# Altium integrated library TI_Logic_Flip-Flop,Latch,Register.IntLib: 2598 symbols (part 2 of 122)
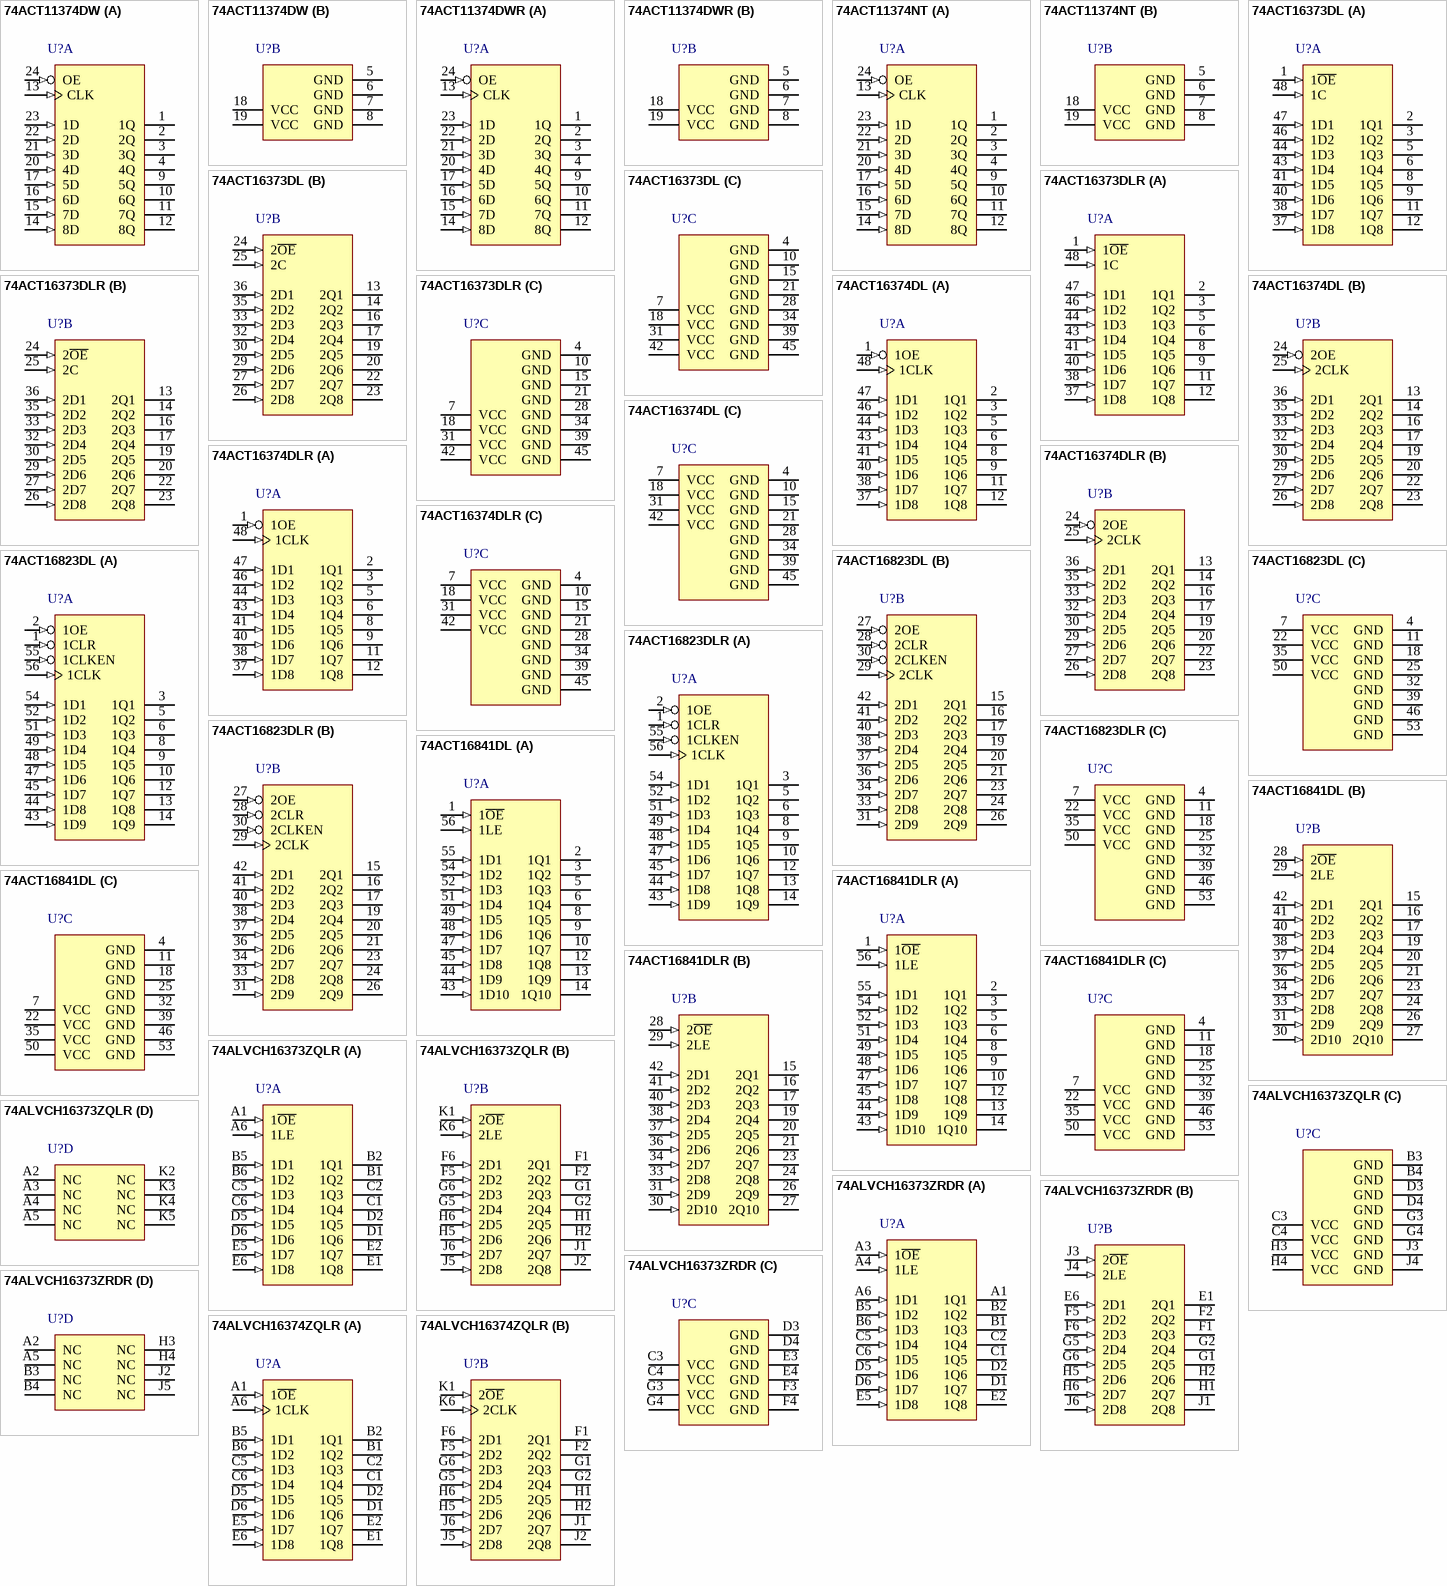
[diagram p140: symbols 74ACT11374DW to 74ALVCH16374ZQLR]

## 74ACT16823DLR
designator U?
18-Bit Bus-Interface Flip-Flops with 3-State Outputs, DL0056A, LARGE T&R; Generic Part Number: 74ACT16823; Manufacturer: Texas Instruments; PartNumber: 74ACT16823DLR; VCC(Min)(V): 4.5; VCC(Max)(V): 5.5; Output Type: CMOS; ICC @ Nom Voltage(Max)(mA): 0.08; Input Type: TTL; Bits(#): 18; F @ Nom Voltage(Max)(Mhz): 90; Rating: Catalog; Technology Family: ACT; Voltage(Nom)(V): 5; Schmitt Trigger: No; Output Drive (IOL/IOH)(Max)(mA): 24/-24; Output Logic: Non-inverted; 3-State Output: Yes; tpd @ Nom Voltage(Max)(ns): 12.9; DatasheetVersion: SCAS160A; PackageReference: DL0056A; Supplier 1: Digi-Key; Supplier Part Number 1: 296-14457-2-ND; Supplier 2: Digi-Key; Supplier Part Number 2: 296-14457-1-ND; Supplier 3: Digi-Key; Supplier Part Number 3: 296-14457-6-ND; Supplier 4: Mouser; Supplier Part Number 4: 595-74ACT16823DLR; Operating Temperature Range(C): -40 to 85; Code_JEDEC: MO-118; ComponentLink1Description: Manufacturer URL; ComponentLink1URL: http://www.ti.com/; ComponentLink2Description: Datasheet; ComponentLink2URL: http://www.ti.com/lit/ds/symlink/74act16823.pdf; ComponentLink3Description: Package Specification; ComponentLink3URL: http://www.ti.com/lit/ml/mpds491/mpds491.pdf
footprint DL0056A_N (SOP, 56-Leads, Body 7.6x18.5mm, Pitch 0.635mm, IPC Medium Density)
footprint DL0056A_M (SOP, 56-Leads, Body 7.6x18.5mm, Pitch 0.635mm, IPC Low Density)
footprint DL0056A_L (SOP, 56-Leads, Body 7.6x18.5mm, Pitch 0.635mm, IPC High Density)
part A pins: 1 1CLR (in) "Asynchronous Clear Inputs (Active LOW)", 2 1OE (in) "Output Enable Inputs (Active LOW)", 3 1Q1 (hiz) "Three-State Outputs", 5 1Q2 (hiz) "Three-State Outputs", 6 1Q3 (hiz) "Three-State Outputs", 8 1Q4 (hiz) "Three-State Outputs", 9 1Q5 (hiz) "Three-State Outputs", 10 1Q6 (hiz) "Three-State Outputs", 12 1Q7 (hiz) "Three-State Outputs", 13 1Q8 (hiz) "Three-State Outputs", 14 1Q9 (hiz) "Three-State Outputs", 43 1D9 (in) "Data Inputs", 44 1D8 (in) "Data Inputs", 45 1D7 (in) "Data Inputs", 47 1D6 (in) "Data Inputs", 48 1D5 (in) "Data Inputs", 49 1D4 (in) "Data Inputs", 51 1D3 (in) "Data Inputs", 52 1D2 (in) "Data Inputs", 54 1D1 (in) "Data Inputs", 55 1CLKEN (in) "Clock Enable Inputs (Active LOW)", 56 1CLK (in) "Clock Inputs"
part B pins: 15 2Q1 (hiz) "Three-State Outputs", 16 2Q2 (hiz) "Three-State Outputs", 17 2Q3 (hiz) "Three-State Outputs", 19 2Q4 (hiz) "Three-State Outputs", 20 2Q5 (hiz) "Three-State Outputs", 21 2Q6 (hiz) "Three-State Outputs", 23 2Q7 (hiz) "Three-State Outputs", 24 2Q8 (hiz) "Three-State Outputs", 26 2Q9 (hiz) "Three-State Outputs", 27 2OE (in) "Output Enable Inputs (Active LOW)", 28 2CLR (in) "Asynchronous Clear Inputs (Active LOW)", 29 2CLK (in) "Clock Inputs", 30 2CLKEN (in) "Clock Enable Inputs (Active LOW)", 31 2D9 (in) "Data Inputs", 33 2D8 (in) "Data Inputs", 34 2D7 (in) "Data Inputs", 36 2D6 (in) "Data Inputs", 37 2D5 (in) "Data Inputs", 38 2D4 (in) "Data Inputs", 40 2D3 (in) "Data Inputs", 41 2D2 (in) "Data Inputs", 42 2D1 (in) "Data Inputs"
part C pins: 4 GND (power), 7 VCC (power), 11 GND (power), 18 GND (power), 22 VCC (power), 25 GND (power), 32 GND (power), 35 VCC (power), 39 GND (power), 46 GND (power), 50 VCC (power), 53 GND (power)

## 74ACT16841DL
designator U?
20-Bit Bus-Interface D-Type Latches With 3-State Outputs, DL0056A, TUBE; Generic Part Number: 74ACT16841; Manufacturer: Texas Instruments; PartNumber: 74ACT16841DL; VCC(Min)(V): 4.5; VCC(Max)(V): 5.5; Output Type: CMOS; Logic: True; Static Current: 0.08; Input Type: TTL; Bits(#): 20; F @ Nom Voltage(Max)(Mhz): 90; Rating: Catalog; Technology Family: ACT; Voltage(Nom)(V): 5; Schmitt Trigger: No; Output Drive (IOL/IOH)(Max)(mA): 24/-24; Output Logic: Non-inverted; 3-State Output: Yes; tpd @ Nom Voltage(Max)(ns): 12.2; DatasheetVersion: SCAS174A; PackageReference: DL0056A; Supplier 1: Digi-Key; Supplier Part Number 1: 296-4210-5-ND; Supplier 2: Mouser; Supplier Part Number 2: 595-74ACT16841DL; ICC @ Nom Voltage(Max)(mA): 0.08; Operating Temperature Range(C): -40 to 85; Code_JEDEC: MO-118; ComponentLink1Description: Manufacturer URL; ComponentLink1URL: http://www.ti.com/; ComponentLink2Description: Datasheet; ComponentLink2URL: http://www.ti.com/lit/ds/symlink/74act16841.pdf; ComponentLink3Description: Package Specification; ComponentLink3URL: http://www.ti.com/lit/ml/mpds491/mpds491.pdf
footprint DL0056A_N (SOP, 56-Leads, Body 7.6x18.5mm, Pitch 0.635mm, IPC Medium Density)
footprint DL0056A_M (SOP, 56-Leads, Body 7.6x18.5mm, Pitch 0.635mm, IPC Low Density)
footprint DL0056A_L (SOP, 56-Leads, Body 7.6x18.5mm, Pitch 0.635mm, IPC High Density)
part A pins: 1 1~{OE} (in) "Output Enable Input (Active LOW)", 2 1Q1 (hiz) "Three-State Outputs", 3 1Q2 (hiz) "Three-State Outputs", 5 1Q3 (hiz) "Three-State Outputs", 6 1Q4 (hiz) "Three-State Outputs", 8 1Q5 (hiz) "Three-State Outputs", 9 1Q6 (hiz) "Three-State Outputs", 10 1Q7 (hiz) "Three-State Outputs", 12 1Q8 (hiz) "Three-State Outputs", 13 1Q9 (hiz) "Three-State Outputs", 14 1Q10 (hiz) "Three-State Outputs", 43 1D10 (in) "Data Inputs", 44 1D9 (in) "Data Inputs", 45 1D8 (in) "Data Inputs", 47 1D7 (in) "Data Inputs", 48 1D6 (in) "Data Inputs", 49 1D5 (in) "Data Inputs", 51 1D4 (in) "Data Inputs", 52 1D3 (in) "Data Inputs", 54 1D2 (in) "Data Inputs", 55 1D1 (in) "Data Inputs", 56 1LE (in) "Latch Enable Input (Active HIGH)"
part B pins: 15 2Q1 (hiz) "Three-State Outputs", 16 2Q2 (hiz) "Three-State Outputs", 17 2Q3 (hiz) "Three-State Outputs", 19 2Q4 (hiz) "Three-State Outputs", 20 2Q5 (hiz) "Three-State Outputs", 21 2Q6 (hiz) "Three-State Outputs", 23 2Q7 (hiz) "Three-State Outputs", 24 2Q8 (hiz) "Three-State Outputs", 26 2Q9 (hiz) "Three-State Outputs", 27 2Q10 (hiz) "Three-State Outputs", 28 2~{OE} (in) "Output Enable Input (Active LOW)", 29 2LE (in) "Latch Enable Input (Active HIGH)", 30 2D10 (in) "Data Inputs", 31 2D9 (in) "Data Inputs", 33 2D8 (in) "Data Inputs", 34 2D7 (in) "Data Inputs", 36 2D6 (in) "Data Inputs", 37 2D5 (in) "Data Inputs", 38 2D4 (in) "Data Inputs", 40 2D3 (in) "Data Inputs", 41 2D2 (in) "Data Inputs", 42 2D1 (in) "Data Inputs"
part C pins: 4 GND (power), 7 VCC (power), 11 GND (power), 18 GND (power), 22 VCC (power), 25 GND (power), 32 GND (power), 35 VCC (power), 39 GND (power), 46 GND (power), 50 VCC (power), 53 GND (power)

## 74ACT16841DLR
designator U?
20-Bit Bus-Interface D-Type Latches With 3-State Outputs, DL0056A, LARGE T&R; Generic Part Number: 74ACT16841; Manufacturer: Texas Instruments; PartNumber: 74ACT16841DLR; VCC(Min)(V): 4.5; VCC(Max)(V): 5.5; Output Type: CMOS; Logic: True; Static Current: 0.08; Input Type: TTL; Bits(#): 20; F @ Nom Voltage(Max)(Mhz): 90; Rating: Catalog; Technology Family: ACT; Voltage(Nom)(V): 5; Schmitt Trigger: No; Output Drive (IOL/IOH)(Max)(mA): 24/-24; Output Logic: Non-inverted; 3-State Output: Yes; tpd @ Nom Voltage(Max)(ns): 12.2; DatasheetVersion: SCAS174A; PackageReference: DL0056A; Supplier 1: Digi-Key; Supplier Part Number 1: 74ACT16841DLR-ND; Supplier 2: Mouser; Supplier Part Number 2: 595-74ACT16841DLR; ICC @ Nom Voltage(Max)(mA): 0.08; Operating Temperature Range(C): -40 to 85; Code_JEDEC: MO-118; ComponentLink1Description: Manufacturer URL; ComponentLink1URL: http://www.ti.com/; ComponentLink2Description: Datasheet; ComponentLink2URL: http://www.ti.com/lit/ds/symlink/74act16841.pdf; ComponentLink3Description: Package Specification; ComponentLink3URL: http://www.ti.com/lit/ml/mpds491/mpds491.pdf
footprint DL0056A_N (SOP, 56-Leads, Body 7.6x18.5mm, Pitch 0.635mm, IPC Medium Density)
footprint DL0056A_M (SOP, 56-Leads, Body 7.6x18.5mm, Pitch 0.635mm, IPC Low Density)
footprint DL0056A_L (SOP, 56-Leads, Body 7.6x18.5mm, Pitch 0.635mm, IPC High Density)
part A pins: 1 1~{OE} (in) "Output Enable Input (Active LOW)", 2 1Q1 (hiz) "Three-State Outputs", 3 1Q2 (hiz) "Three-State Outputs", 5 1Q3 (hiz) "Three-State Outputs", 6 1Q4 (hiz) "Three-State Outputs", 8 1Q5 (hiz) "Three-State Outputs", 9 1Q6 (hiz) "Three-State Outputs", 10 1Q7 (hiz) "Three-State Outputs", 12 1Q8 (hiz) "Three-State Outputs", 13 1Q9 (hiz) "Three-State Outputs", 14 1Q10 (hiz) "Three-State Outputs", 43 1D10 (in) "Data Inputs", 44 1D9 (in) "Data Inputs", 45 1D8 (in) "Data Inputs", 47 1D7 (in) "Data Inputs", 48 1D6 (in) "Data Inputs", 49 1D5 (in) "Data Inputs", 51 1D4 (in) "Data Inputs", 52 1D3 (in) "Data Inputs", 54 1D2 (in) "Data Inputs", 55 1D1 (in) "Data Inputs", 56 1LE (in) "Latch Enable Input (Active HIGH)"
part B pins: 15 2Q1 (hiz) "Three-State Outputs", 16 2Q2 (hiz) "Three-State Outputs", 17 2Q3 (hiz) "Three-State Outputs", 19 2Q4 (hiz) "Three-State Outputs", 20 2Q5 (hiz) "Three-State Outputs", 21 2Q6 (hiz) "Three-State Outputs", 23 2Q7 (hiz) "Three-State Outputs", 24 2Q8 (hiz) "Three-State Outputs", 26 2Q9 (hiz) "Three-State Outputs", 27 2Q10 (hiz) "Three-State Outputs", 28 2~{OE} (in) "Output Enable Input (Active LOW)", 29 2LE (in) "Latch Enable Input (Active HIGH)", 30 2D10 (in) "Data Inputs", 31 2D9 (in) "Data Inputs", 33 2D8 (in) "Data Inputs", 34 2D7 (in) "Data Inputs", 36 2D6 (in) "Data Inputs", 37 2D5 (in) "Data Inputs", 38 2D4 (in) "Data Inputs", 40 2D3 (in) "Data Inputs", 41 2D2 (in) "Data Inputs", 42 2D1 (in) "Data Inputs"
part C pins: 4 GND (power), 7 VCC (power), 11 GND (power), 18 GND (power), 22 VCC (power), 25 GND (power), 32 GND (power), 35 VCC (power), 39 GND (power), 46 GND (power), 50 VCC (power), 53 GND (power)

## 74ALVCH16373ZQLR
designator U?
16-Bit Transparent D-Type Latch With 3-State Outputs, ZQL0056A, LARGE T&R; Generic Part Number: SN74ALVCH16373; Manufacturer: Texas Instruments; PartNumber: 74ALVCH16373ZQLR; VCC(Min)(V): 1.65; VCC(Max)(V): 3.6; Output Type: LVTTL; Logic: True; Static Current: 0.04; Bits(#): 16; F @ Nom Voltage(Max)(Mhz): 150; Rating: Catalog; Technology Family: ALVC; Voltage(Nom)(V): 1.8,2.5,2.7,3.3; Schmitt Trigger: No; Output Drive (IOL/IOH)(Max)(mA): 24/-24; Output Logic: Non-inverted; 3-State Output: Yes; tpd @ Nom Voltage(Max)(ns): 4.5,4.3,3.6; DatasheetVersion: SCES020I; PackageReference: ZQL0056A; Supplier 1: Digi-Key; Supplier Part Number 1: 296-23184-2-ND; Supplier 2: Digi-Key; Supplier Part Number 2: 296-23184-1-ND; Supplier 3: Digi-Key; Supplier Part Number 3: 296-23184-6-ND; Supplier 4: Newark; Supplier Part Number 4: 87H5279; Supplier 5: Mouser; Supplier Part Number 5: 595-74ALVCH16373ZQLR; ICC @ Nom Voltage(Max)(mA): 0.04; Input Type: LVTTL; Operating Temperature Range(C): -40 to 85; Code_JEDEC: MO-285; ComponentLink1Description: Manufacturer URL; ComponentLink1URL: http://www.ti.com/; ComponentLink2Description: Datasheet; ComponentLink2URL: http://www.ti.com/lit/ds/symlink/sn74alvch16373.pdf; ComponentLink3Description: Package Specification; ComponentLink3URL: http://www.ti.com/lit/ml/mpbg302g/mpbg302g.pdf
footprint ZQL0056A (BGA, 56-Balls, Body 7x4.5mm, Pitch 0.65mm)
part A pins: A1 1~{OE} (in) "Output Enable 1", A6 1LE (in) "Latch Enable 1", B1 1Q2 (hiz) "1Q2 Output", B2 1Q1 (hiz) "1Q1 Output", B5 1D1 (in) "1D1 Input", B6 1D2 (in) "1D2 Input", C1 1Q4 (hiz) "1Q4 Output", C2 1Q3 (hiz) "1Q3 Output", C5 1D3 (in) "1D3 Input", C6 1D4 (in) "1D4 Input", D1 1Q6 (hiz) "1Q6 Output", D2 1Q5 (hiz) "1Q5 Output", D5 1D5 (in) "1D5 Input", D6 1D6 (in) "1D6 Input", E1 1Q8 (hiz) "1Q7 Output", E2 1Q7 (hiz) "1Q8 Output", E5 1D7 (in) "1D7 Input", E6 1D8 (in) "1D8 Input"
part B pins: F1 2Q1 (hiz) "2Q1 Output", F2 2Q2 (hiz) "2Q2 Output", F5 2D2 (in) "2D2 Input", F6 2D1 (in) "2D1 Input", G1 2Q3 (hiz) "2Q3 Output", G2 2Q4 (hiz) "2Q4 Output", G5 2D4 (in) "2D4 Input", G6 2D3 (in) "2D3 Input", H1 2Q5 (hiz) "2Q5 Output", H2 2Q6 (hiz) "2Q6 Output", H5 2D6 (in) "2D6 Input", H6 2D5 (in) "2D5 Input", J1 2Q7 (hiz) "2Q7 Output", J2 2Q8 (hiz) "2Q8 Output", J5 2D8 (in) "2D8 Input", J6 2D7 (in) "2D7 Input", K1 2~{OE} (in) "Output Enable 2", K6 2LE (in) "2LE Input"
part C pins: B3 GND (power) "Ground Pin", B4 GND (power) "Ground Pin", C3 VCC (power) "Power Pin", C4 VCC (power) "Power Pin", D3 GND (power) "Ground Pin", D4 GND (power) "Ground Pin", G3 GND (power) "Ground Pin", G4 GND (power) "Ground Pin", H3 VCC (power) "Power Pin", H4 VCC (power) "Power Pin", J3 GND (power) "Ground Pin", J4 GND (power) "Ground Pin"
part D pins: A2 NC, A3 NC, A4 NC, A5 NC, K2 NC, K3 NC, K4 NC, K5 NC

## 74ALVCH16373ZRDR
designator U?
16-Bit Transparent D-Type Latch With 3-State Outputs, ZRD0054A, LARGE T&R; Generic Part Number: SN74ALVCH16373; Manufacturer: Texas Instruments; PartNumber: 74ALVCH16373ZRDR; VCC(Min)(V): 1.65; VCC(Max)(V): 3.6; Output Type: LVTTL; Logic: True; Static Current: 0.04; Bits(#): 16; F @ Nom Voltage(Max)(Mhz): 150; Rating: Catalog; Technology Family: ALVC; Voltage(Nom)(V): 1.8,2.5,2.7,3.3; Schmitt Trigger: No; Output Drive (IOL/IOH)(Max)(mA): 24/-24; Output Logic: Non-inverted; 3-State Output: Yes; tpd @ Nom Voltage(Max)(ns): 4.5,4.3,3.6; DatasheetVersion: SCES020I; PackageReference: ZRD0054A; Supplier 1: Digi-Key; Supplier Part Number 1: 296-16875-2-ND; Supplier 2: Digi-Key; Supplier Part Number 2: 296-16875-1-ND; Supplier 3: Digi-Key; Supplier Part Number 3: 296-16875-6-ND; Supplier 4: Mouser; Supplier Part Number 4: 595-74ALVCH16373ZRDR; ICC @ Nom Voltage(Max)(mA): 0.04; Input Type: LVTTL; Operating Temperature Range(C): -40 to 85; Code_JEDEC: MO-205; ComponentLink1Description: Manufacturer URL; ComponentLink1URL: http://www.ti.com/; ComponentLink2Description: Datasheet; ComponentLink2URL: http://www.ti.com/lit/ds/symlink/sn74alvch16373.pdf; ComponentLink3Description: Package Specification; ComponentLink3URL: http://www.ti.com/lit/ml/mpbg320a/mpbg320a.pdf
footprint ZRD0054A (BGA, 54-Balls, Body 8x5.5mm, Pitch 0.8mm)
part A pins: A1 1Q1 (hiz), A3 1~{OE} (in), A4 1LE (in), A6 1D1 (in), B1 1Q3 (hiz), B2 1Q2 (hiz), B5 1D2 (in), B6 1D3 (in), C1 1Q5 (hiz), C2 1Q4 (hiz), C5 1D4 (in), C6 1D5 (in), D1 1Q7 (hiz), D2 1Q6 (hiz), D5 1D6 (in), D6 1D7 (in), E2 1Q8 (hiz), E5 1D8 (in)
part B pins: E1 2Q1 (hiz), E6 2D1 (in), F1 2Q3 (hiz), F2 2Q2 (hiz), F5 2D2 (in), F6 2D3 (in), G1 2Q5 (hiz), G2 2Q4 (hiz), G5 2D4 (in), G6 2D5 (in), H1 2Q7 (hiz), H2 2Q6 (hiz), H5 2D6 (in), H6 2D7 (in), J1 2Q8 (hiz), J3 2~{OE} (in), J4 2LE (in), J6 2D8 (in)
part C pins: C3 VCC (power), C4 VCC (power), D3 GND (power), D4 GND (power), E3 GND (power), E4 GND (power), F3 GND (power), F4 GND (power), G3 VCC (power), G4 VCC (power)
part D pins: A2 NC, A5 NC, B3 NC, B4 NC, H3 NC, H4 NC, J2 NC, J5 NC

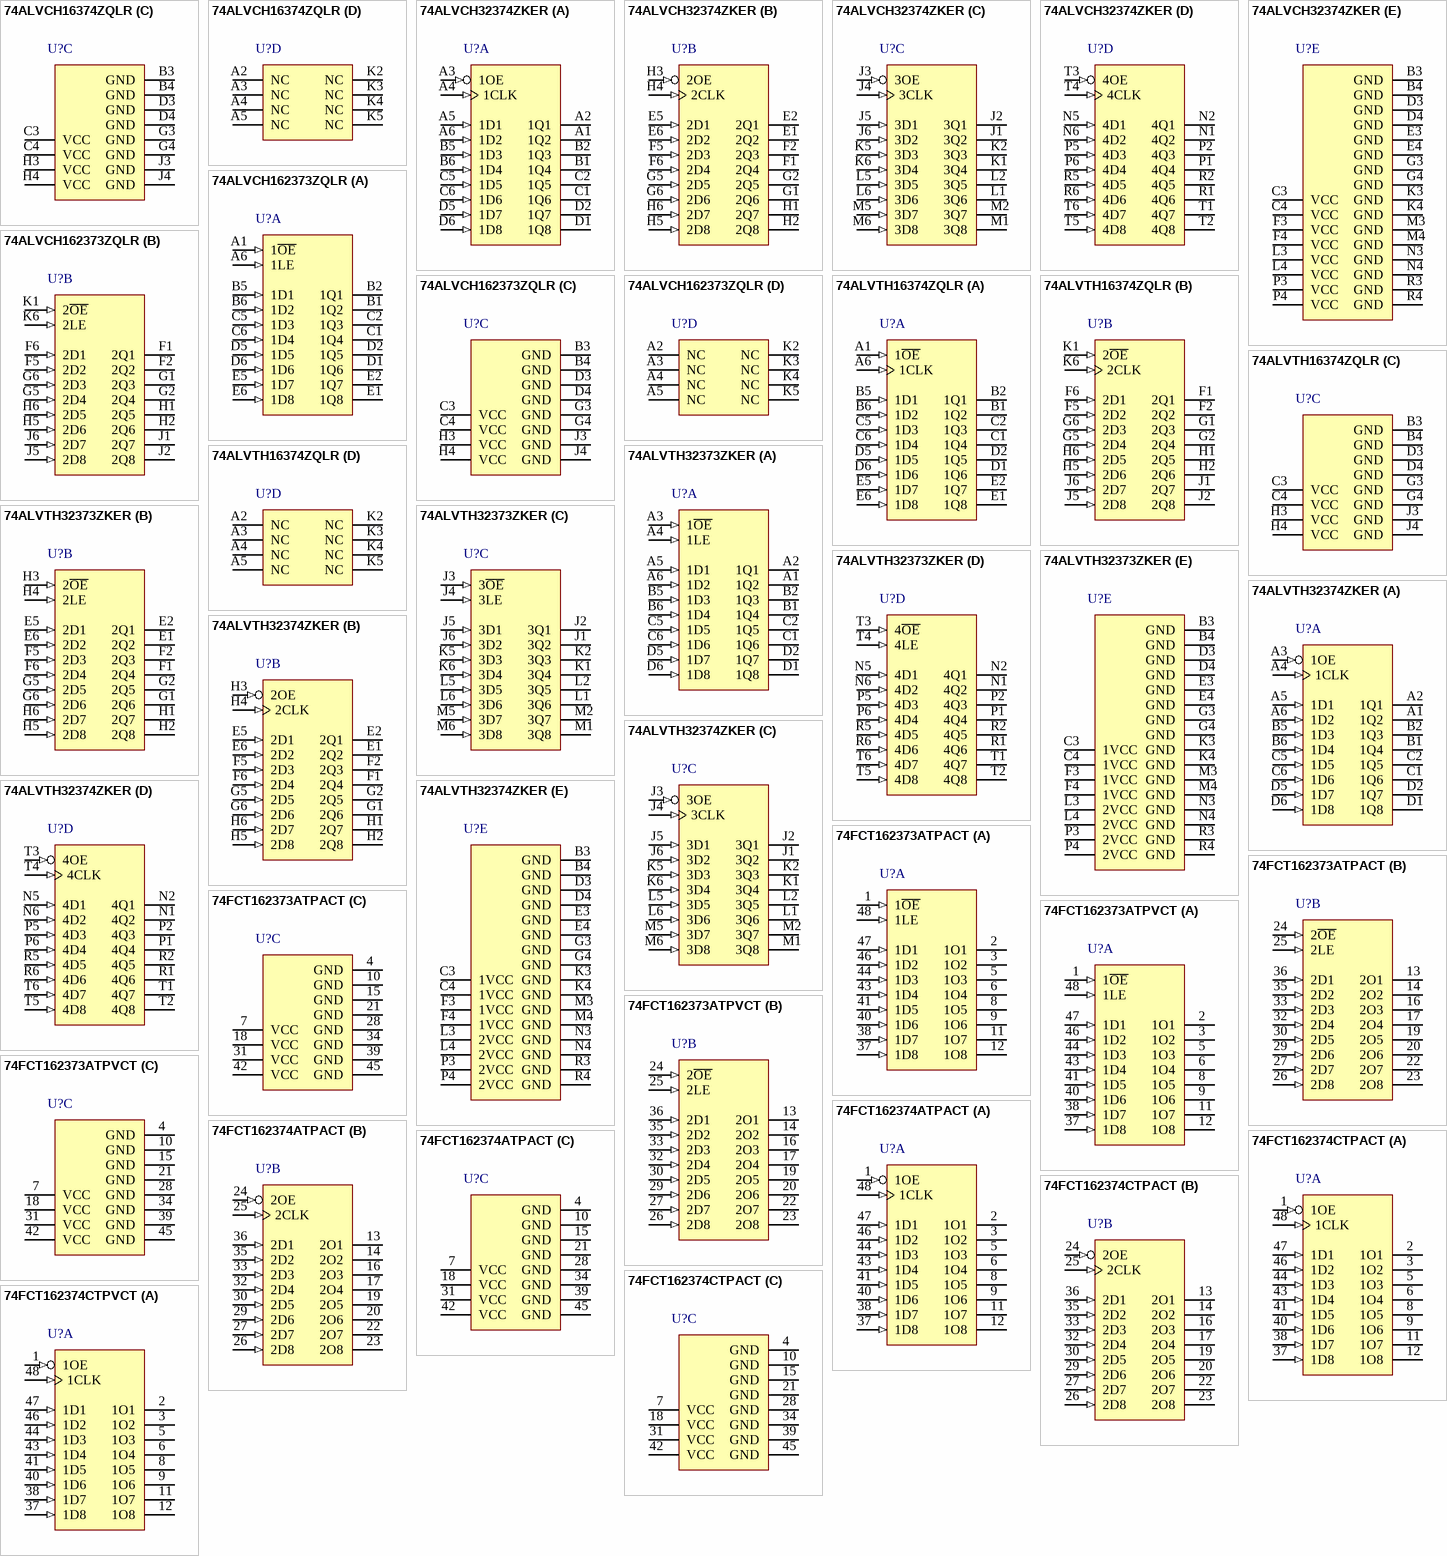
[diagram p2: symbols 74ALVCH16374ZQLR to 74FCT162374CTPVCT]

## 74ALVCH16374ZQLR
designator U?
16-Bit Edge-Triggered D-Type Flip-Flop With 3-State Outputs, ZQL0056A, LARGE T&R; Generic Part Number: SN74ALVCH16374; Manufacturer: Texas Instruments; PartNumber: 74ALVCH16374ZQLR; VCC(Min)(V): 1.65; VCC(Max)(V): 3.6; Output Type: LVTTL,CMOS; ICC @ Nom Voltage(Max)(mA): 0.04; Bits(#): 16; F @ Nom Voltage(Max)(Mhz): 150; Rating: Catalog; Technology Family: ALVC; Voltage(Nom)(V): 1.8,2.5,2.7,3.3; Schmitt Trigger: No; Output Drive (IOL/IOH)(Max)(mA): 24/-24; Output Logic: Non-inverted; 3-State Output: Yes; tpd @ Nom Voltage(Max)(ns): 5.3,4.9,4.2; DatasheetVersion: SCES021L; PackageReference: ZQL0056A; Supplier 1: Digi-Key; Supplier Part Number 1: 74ALVCH16374ZQLR-ND; Input Type: LVTTL,CMOS; Operating Temperature Range(C): -40 to 85; Code_JEDEC: MO-285; ComponentLink1Description: Manufacturer URL; ComponentLink1URL: http://www.ti.com/; ComponentLink2Description: Datasheet; ComponentLink2URL: http://www.ti.com/lit/ds/symlink/sn74alvch16374.pdf; ComponentLink3Description: Package Specification; ComponentLink3URL: http://www.ti.com/lit/ml/mpbg302g/mpbg302g.pdf
footprint ZQL0056A (BGA, 56-Balls, Body 7x4.5mm, Pitch 0.65mm)
part A pins: A1 1~{OE} (in), A6 1CLK (in), B1 1Q2 (hiz), B2 1Q1 (hiz), B5 1D1 (in), B6 1D2 (in), C1 1Q4 (hiz), C2 1Q3 (hiz), C5 1D3 (in), C6 1D4 (in), D1 1Q6 (hiz), D2 1Q5 (hiz), D5 1D5 (in), D6 1D6 (in), E1 1Q8 (hiz), E2 1Q7 (hiz), E5 1D7 (in), E6 1D8 (in)
part B pins: F1 2Q1 (hiz), F2 2Q2 (hiz), F5 2D2 (in), F6 2D1 (in), G1 2Q3 (hiz), G2 2Q4 (hiz), G5 2D4 (in), G6 2D3 (in), H1 2Q5 (hiz), H2 2Q6 (hiz), H5 2D6 (in), H6 2D5 (in), J1 2Q7 (hiz), J2 2Q8 (hiz), J5 2D8 (in), J6 2D7 (in), K1 2~{OE} (in), K6 2CLK (in)
part C pins: B3 GND (power), B4 GND (power), C3 VCC (power), C4 VCC (power), D3 GND (power), D4 GND (power), G3 GND (power), G4 GND (power), H3 VCC (power), H4 VCC (power), J3 GND (power), J4 GND (power)
part D pins: A2 NC, A3 NC, A4 NC, A5 NC, K2 NC, K3 NC, K4 NC, K5 NC

## 74ALVCH32374ZKER
designator U?
32-Bit Edge-Triggered D-Type Flip-Flop With 3-State Outputs, ZKE0096A, LARGE T&R; Generic Part Number: SN74ALVCH32374; Manufacturer: Texas Instruments; PartNumber: 74ALVCH32374ZKER; DatasheetVersion: SCES283D; PackageReference: ZKE0096A; Supplier 1: Digi-Key; Supplier Part Number 1: 296-24976-2-ND; Supplier 2: Digi-Key; Supplier Part Number 2: 296-24976-1-ND; Supplier 3: Digi-Key; Supplier Part Number 3: 296-24976-6-ND; Code_JEDEC: MO-205; ComponentLink1Description: Manufacturer URL; ComponentLink1URL: http://www.ti.com/; ComponentLink2Description: Datasheet; ComponentLink2URL: http://www.ti.com/lit/ds/symlink/sn74alvch32374.pdf; ComponentLink3Description: Package Specification; ComponentLink3URL: http://www.ti.com/lit/ml/mpbg298b/mpbg298b.pdf
footprint ZKE0096A (BGA, 96-Balls, Body 13.5x5.5mm, Pitch 0.8mm)
part A pins: A1 1Q2 (hiz), A2 1Q1 (hiz), A3 1OE (in), A4 1CLK (in), A5 1D1 (in), A6 1D2 (in), B1 1Q4 (hiz), B2 1Q3 (hiz), B5 1D3 (in), B6 1D4 (in), C1 1Q6 (hiz), C2 1Q5 (hiz), C5 1D5 (in), C6 1D6 (in), D1 1Q8 (hiz), D2 1Q7 (hiz), D5 1D7 (in), D6 1D8 (in)
part B pins: E1 2Q2 (hiz), E2 2Q1 (hiz), E5 2D1 (in), E6 2D2 (in), F1 2Q4 (hiz), F2 2Q3 (hiz), F5 2D3 (in), F6 2D4 (in), G1 2Q6 (hiz), G2 2Q5 (hiz), G5 2D5 (in), G6 2D6 (in), H1 2Q7 (hiz), H2 2Q8 (hiz), H3 2OE (in), H4 2CLK (in), H5 2D8 (in), H6 2D7 (in)
part C pins: J1 3Q2 (hiz), J2 3Q1 (hiz), J3 3OE (in), J4 3CLK (in), J5 3D1 (in), J6 3D2 (in), K1 3Q4 (hiz), K2 3Q3 (hiz), K5 3D3 (in), K6 3D4 (in), L1 3Q6 (hiz), L2 3Q5 (hiz), L5 3D5 (in), L6 3D6 (in), M1 3Q8 (hiz), M2 3Q7 (hiz), M5 3D7 (in), M6 3D8 (in)
part D pins: N1 4Q2 (hiz), N2 4Q1 (hiz), N5 4D1 (in), N6 4D2 (in), P1 4Q4 (hiz), P2 4Q3 (hiz), P5 4D3 (in), P6 4D4 (in), R1 4Q6 (hiz), R2 4Q5 (hiz), R5 4D5 (in), R6 4D6 (in), T1 4Q7 (hiz), T2 4Q8 (hiz), T3 4OE (in), T4 4CLK (in), T5 4D8 (in), T6 4D7 (in)
part E pins: B3 GND (power), B4 GND (power), C3 VCC (power), C4 VCC (power), D3 GND (power), D4 GND (power), E3 GND (power), E4 GND (power), F3 VCC (power), F4 VCC (power), G3 GND (power), G4 GND (power), K3 GND (power), K4 GND (power), L3 VCC (power), L4 VCC (power), M3 GND (power), M4 GND (power), N3 GND (power), N4 GND (power), P3 VCC (power), P4 VCC (power), R3 GND (power), R4 GND (power)

## 74ALVCH162373ZQLR
designator U?
16-Bit Transparent D-Type Latch with 3-State Outputs, ZQL0056A, LARGE T&R; Generic Part Number: SN74ALVCH162373; Manufacturer: Texas Instruments; PartNumber: 74ALVCH162373ZQLR; VCC(Min)(V): 1.65; VCC(Max)(V): 3.6; Output Type: LVTTL; Logic: True; Static Current: 0.04; Bits(#): 16; F @ Nom Voltage(Max)(Mhz): 150; Rating: Catalog; Technology Family: ALVC; Voltage(Nom)(V): 1.8,2.5,2.7,3.3; Schmitt Trigger: No; Output Drive (IOL/IOH)(Max)(mA): 12/-12; Output Logic: Non-inverted; 3-State Output: Yes; tpd @ Nom Voltage(Max)(ns): 6.3,5.3,4.5,4; DatasheetVersion: SCES583A; PackageReference: ZQL0056A; Supplier 1: Digi-Key; Supplier Part Number 1: 296-28834-2-ND; Supplier 2: Digi-Key; Supplier Part Number 2: 296-28834-1-ND; Supplier 3: Digi-Key; Supplier Part Number 3: 296-28834-6-ND; Supplier 4: Newark; Supplier Part Number 4: 66K5228; Supplier 5: Mouser; Supplier Part Number 5: 595-ALVCH162373ZQLR; ICC @ Nom Voltage(Max)(mA): 0.04; Input Type: LVTTL; Operating Temperature Range(C): -40 to 85; Code_JEDEC: MO-285; ComponentLink1Description: Manufacturer URL; ComponentLink1URL: http://www.ti.com/; ComponentLink2Description: Datasheet; ComponentLink2URL: http://www.ti.com/lit/ds/symlink/sn74alvch162373.pdf; ComponentLink3Description: Package Specification; ComponentLink3URL: http://www.ti.com/lit/ml/mpbg302g/mpbg302g.pdf
footprint ZQL0056A (BGA, 56-Balls, Body 7x4.5mm, Pitch 0.65mm)
part A pins: A1 1~{OE} (in) "Output Enable 1", A6 1LE (in) "Latch Enable 1", B1 1Q2 (hiz) "1Q2 Output", B2 1Q1 (hiz) "1Q1 Output", B5 1D1 (in) "1D1 Input", B6 1D2 (in) "1D2 Input", C1 1Q4 (hiz) "1Q4 Output", C2 1Q3 (hiz) "1Q3 Output", C5 1D3 (in) "1D3 Input", C6 1D4 (in) "1D4 Input", D1 1Q6 (hiz) "1Q6 Output", D2 1Q5 (hiz) "1Q5 Output", D5 1D5 (in) "1D5 Input", D6 1D6 (in) "1D6 Input", E1 1Q8 (hiz) "1Q7 Output", E2 1Q7 (hiz) "1Q8 Output", E5 1D7 (in) "1D7 Input", E6 1D8 (in) "1D8 Input"
part B pins: F1 2Q1 (hiz) "2Q1 Output", F2 2Q2 (hiz) "2Q2 Output", F5 2D2 (in) "2D2 Input", F6 2D1 (in) "2D1 Input", G1 2Q3 (hiz) "2Q3 Output", G2 2Q4 (hiz) "2Q4 Output", G5 2D4 (in) "2D4 Input", G6 2D3 (in) "2D3 Input", H1 2Q5 (hiz) "2Q5 Output", H2 2Q6 (hiz) "2Q6 Output", H5 2D6 (in) "2D6 Input", H6 2D5 (in) "2D5 Input", J1 2Q7 (hiz) "2Q7 Output", J2 2Q8 (hiz) "2Q8 Output", J5 2D8 (in) "2D8 Input", J6 2D7 (in) "2D7 Input", K1 2~{OE} (in) "Output Enable 2", K6 2LE (in) "2LE Input"
part C pins: B3 GND (power) "Ground Pin", B4 GND (power) "Ground Pin", C3 VCC (power) "Power Pin", C4 VCC (power) "Power Pin", D3 GND (power) "Ground Pin", D4 GND (power) "Ground Pin", G3 GND (power) "Ground Pin", G4 GND (power) "Ground Pin", H3 VCC (power) "Power Pin", H4 VCC (power) "Power Pin", J3 GND (power) "Ground Pin", J4 GND (power) "Ground Pin"
part D pins: A2 NC, A3 NC, A4 NC, A5 NC, K2 NC, K3 NC, K4 NC, K5 NC

## 74ALVTH16374ZQLR
designator U?
2.5-V/3.3-V 16-Bit Edge-Triggered D-Type Flip-Flops With 3-State Outputs, ZQL0056A, LARGE T&R; Generic Part Number: SN74ALVTH16374; Manufacturer: Texas Instruments; PartNumber: 74ALVTH16374ZQLR; VCC(Min)(V): 2.3; VCC(Max)(V): 3.6; Output Type: TTL; ICC @ Nom Voltage(Max)(mA): 5; Bits(#): 16; F @ Nom Voltage(Max)(Mhz): 250; Rating: Catalog; Technology Family: ALVT; Voltage(Nom)(V): 2.5,3.3; Schmitt Trigger: No; Output Drive (IOL/IOH)(Max)(mA): 64/-32; Output Logic: Non-inverted; 3-State Output: Yes; tpd @ Nom Voltage(Max)(ns): 3.8,3.2; DatasheetVersion: SCES068G; PackageReference: ZQL0056A; Supplier 1: Digi-Key; Supplier Part Number 1: 296-37314-2-ND; Supplier 2: Digi-Key; Supplier Part Number 2: 296-37314-1-ND; Supplier 3: Digi-Key; Supplier Part Number 3: 296-37314-6-ND; Supplier 4: Mouser; Supplier Part Number 4: 595-74ALVTH16374ZQLR; Input Type: TTL; Operating Temperature Range(C): -40 to 85; Code_JEDEC: MO-285; ComponentLink1Description: Manufacturer URL; ComponentLink1URL: http://www.ti.com/; ComponentLink2Description: Datasheet; ComponentLink2URL: http://www.ti.com/lit/ds/symlink/sn74alvth16374.pdf; ComponentLink3Description: Package Specification; ComponentLink3URL: http://www.ti.com/lit/ml/mpbg302g/mpbg302g.pdf
footprint ZQL0056A (BGA, 56-Balls, Body 7x4.5mm, Pitch 0.65mm)
part A pins: A1 1~{OE} (in), A6 1CLK (in), B1 1Q2 (hiz), B2 1Q1 (hiz), B5 1D1 (in), B6 1D2 (in), C1 1Q4 (hiz), C2 1Q3 (hiz), C5 1D3 (in), C6 1D4 (in), D1 1Q6 (hiz), D2 1Q5 (hiz), D5 1D5 (in), D6 1D6 (in), E1 1Q8 (hiz), E2 1Q7 (hiz), E5 1D7 (in), E6 1D8 (in)
part B pins: F1 2Q1 (hiz), F2 2Q2 (hiz), F5 2D2 (in), F6 2D1 (in), G1 2Q3 (hiz), G2 2Q4 (hiz), G5 2D4 (in), G6 2D3 (in), H1 2Q5 (hiz), H2 2Q6 (hiz), H5 2D6 (in), H6 2D5 (in), J1 2Q7 (hiz), J2 2Q8 (hiz), J5 2D8 (in), J6 2D7 (in), K1 2~{OE} (in), K6 2CLK (in)
part C pins: B3 GND (power), B4 GND (power), C3 VCC (power), C4 VCC (power), D3 GND (power), D4 GND (power), G3 GND (power), G4 GND (power), H3 VCC (power), H4 VCC (power), J3 GND (power), J4 GND (power)
part D pins: A2 NC, A3 NC, A4 NC, A5 NC, K2 NC, K3 NC, K4 NC, K5 NC

## 74ALVTH32373ZKER
designator U?
2.5-V/3.3-V 32-Bit Transparent D-Type Latches With 3-State Outputs, ZKE0096A, LARGE T&R; Generic Part Number: SN74ALVTH32373; Manufacturer: Texas Instruments; PartNumber: 74ALVTH32373ZKER; VCC(Min)(V): 2.3; VCC(Max)(V): 3.6; Output Type: TTL; Logic: True; Static Current: 5; Bits(#): 32; F @ Nom Voltage(Max)(Mhz): 250; Rating: Catalog; Technology Family: ALVT; Voltage(Nom)(V): 2.5,3.3; Schmitt Trigger: No; Output Drive (IOL/IOH)(Max)(mA): 64/-32; Output Logic: Non-inverted; 3-State Output: Yes; tpd @ Nom Voltage(Max)(ns): 3.8,3.3; DatasheetVersion: SCES322A; PackageReference: ZKE0096A; Supplier 1: Digi-Key; Supplier Part Number 1: 296-41179-2-ND; Supplier 2: Digi-Key; Supplier Part Number 2: 296-41179-1-ND; Supplier 3: Digi-Key; Supplier Part Number 3: 296-41179-6-ND; Supplier 4: Newark; Supplier Part Number 4: 87H5291; Supplier 5: Mouser; Supplier Part Number 5: 595-74ALVTH32373ZKER; ICC @ Nom Voltage(Max)(mA): 5; Input Type: TTL; Operating Temperature Range(C): -40 to 85; Code_JEDEC: MO-205; ComponentLink1Description: Manufacturer URL; ComponentLink1URL: http://www.ti.com/; ComponentLink2Description: Datasheet; ComponentLink2URL: http://www.ti.com/lit/ds/symlink/sn74alvth32373.pdf; ComponentLink3Description: Package Specification; ComponentLink3URL: http://www.ti.com/lit/ml/mpbg298b/mpbg298b.pdf
footprint ZKE0096A (BGA, 96-Balls, Body 13.5x5.5mm, Pitch 0.8mm)
part A pins: A1 1Q2 (hiz), A2 1Q1 (hiz), A3 1~{OE} (in), A4 1LE (in), A5 1D1 (in), A6 1D2 (in), B1 1Q4 (hiz), B2 1Q3 (hiz), B5 1D3 (in), B6 1D4 (in), C1 1Q6 (hiz), C2 1Q5 (hiz), C5 1D5 (in), C6 1D6 (in), D1 1Q8 (hiz), D2 1Q7 (hiz), D5 1D7 (in), D6 1D8 (in)
part B pins: E1 2Q2 (hiz), E2 2Q1 (hiz), E5 2D1 (in), E6 2D2 (in), F1 2Q4 (hiz), F2 2Q3 (hiz), F5 2D3 (in), F6 2D4 (in), G1 2Q6 (hiz), G2 2Q5 (hiz), G5 2D5 (in), G6 2D6 (in), H1 2Q7 (hiz), H2 2Q8 (hiz), H3 2~{OE} (in), H4 2LE (in), H5 2D8 (in), H6 2D7 (in)
part C pins: J1 3Q2 (hiz), J2 3Q1 (hiz), J3 3~{OE} (in), J4 3LE (in), J5 3D1 (in), J6 3D2 (in), K1 3Q4 (hiz), K2 3Q3 (hiz), K5 3D3 (in), K6 3D4 (in), L1 3Q6 (hiz), L2 3Q5 (hiz), L5 3D5 (in), L6 3D6 (in), M1 3Q8 (hiz), M2 3Q7 (hiz), M5 3D7 (in), M6 3D8 (in)
part D pins: N1 4Q2 (hiz), N2 4Q1 (hiz), N5 4D1 (in), N6 4D2 (in), P1 4Q4 (hiz), P2 4Q3 (hiz), P5 4D3 (in), P6 4D4 (in), R1 4Q6 (hiz), R2 4Q5 (hiz), R5 4D5 (in), R6 4D6 (in), T1 4Q7 (hiz), T2 4Q8 (hiz), T3 4~{OE} (in), T4 4LE (in), T5 4D8 (in), T6 4D7 (in)
part E pins: B3 GND (power), B4 GND (power), C3 1VCC (power), C4 1VCC (power), D3 GND (power), D4 GND (power), E3 GND (power), E4 GND (power), F3 1VCC (power), F4 1VCC (power), G3 GND (power), G4 GND (power), K3 GND (power), K4 GND (power), L3 2VCC (power), L4 2VCC (power), M3 GND (power), M4 GND (power), N3 GND (power), N4 GND (power), P3 2VCC (power), P4 2VCC (power), R3 GND (power), R4 GND (power)

## 74ALVTH32374ZKER
designator U?
2.5-V/3.3-V 32-Bit Edge-Triggered D-Type Flip-Flops With 3-State Outputs, ZKE0096A, LARGE T&R; Generic Part Number: SN74ALVTH32374; Manufacturer: Texas Instruments; PartNumber: 74ALVTH32374ZKER; DatasheetVersion: SCES280; PackageReference: ZKE0096A; Supplier 1: Digi-Key; Supplier Part Number 1: 296-38035-2-ND; Supplier 2: Digi-Key; Supplier Part Number 2: 296-38035-1-ND; Supplier 3: Digi-Key; Supplier Part Number 3: 296-38035-6-ND; Supplier 4: Mouser; Supplier Part Number 4: 595-74ALVTH32374ZKER; Code_JEDEC: MO-205; ComponentLink1Description: Manufacturer URL; ComponentLink1URL: http://www.ti.com/; ComponentLink2Description: Datasheet; ComponentLink2URL: http://www.ti.com/lit/ds/symlink/sn74alvth32374.pdf; ComponentLink3Description: Package Specification; ComponentLink3URL: http://www.ti.com/lit/ml/mpbg298b/mpbg298b.pdf
footprint ZKE0096A (BGA, 96-Balls, Body 13.5x5.5mm, Pitch 0.8mm)
part A pins: A1 1Q2 (hiz), A2 1Q1 (hiz), A3 1OE (in), A4 1CLK (in), A5 1D1 (in), A6 1D2 (in), B1 1Q4 (hiz), B2 1Q3 (hiz), B5 1D3 (in), B6 1D4 (in), C1 1Q6 (hiz), C2 1Q5 (hiz), C5 1D5 (in), C6 1D6 (in), D1 1Q8 (hiz), D2 1Q7 (hiz), D5 1D7 (in), D6 1D8 (in)
part B pins: E1 2Q2 (hiz), E2 2Q1 (hiz), E5 2D1 (in), E6 2D2 (in), F1 2Q4 (hiz), F2 2Q3 (hiz), F5 2D3 (in), F6 2D4 (in), G1 2Q6 (hiz), G2 2Q5 (hiz), G5 2D5 (in), G6 2D6 (in), H1 2Q7 (hiz), H2 2Q8 (hiz), H3 2OE (in), H4 2CLK (in), H5 2D8 (in), H6 2D7 (in)
part C pins: J1 3Q2 (hiz), J2 3Q1 (hiz), J3 3OE (in), J4 3CLK (in), J5 3D1 (in), J6 3D2 (in), K1 3Q4 (hiz), K2 3Q3 (hiz), K5 3D3 (in), K6 3D4 (in), L1 3Q6 (hiz), L2 3Q5 (hiz), L5 3D5 (in), L6 3D6 (in), M1 3Q8 (hiz), M2 3Q7 (hiz), M5 3D7 (in), M6 3D8 (in)
part D pins: N1 4Q2 (hiz), N2 4Q1 (hiz), N5 4D1 (in), N6 4D2 (in), P1 4Q4 (hiz), P2 4Q3 (hiz), P5 4D3 (in), P6 4D4 (in), R1 4Q6 (hiz), R2 4Q5 (hiz), R5 4D5 (in), R6 4D6 (in), T1 4Q7 (hiz), T2 4Q8 (hiz), T3 4OE (in), T4 4CLK (in), T5 4D8 (in), T6 4D7 (in)
part E pins: B3 GND (power), B4 GND (power), C3 1VCC (power), C4 1VCC (power), D3 GND (power), D4 GND (power), E3 GND (power), E4 GND (power), F3 1VCC (power), F4 1VCC (power), G3 GND (power), G4 GND (power), K3 GND (power), K4 GND (power), L3 2VCC (power), L4 2VCC (power), M3 GND (power), M4 GND (power), N3 GND (power), N4 GND (power), P3 2VCC (power), P4 2VCC (power), R3 GND (power), R4 GND (power)

## 74FCT162373ATPACT
designator U?
16-Bit Transparent D-Type Latches with 3-State Outputs, DGG0048A, LARGE T&R; Generic Part Number: CY74FCT162373T; Manufacturer: Texas Instruments; PartNumber: 74FCT162373ATPACT; VCC(Min)(V): 4.5; VCC(Max)(V): 5.5; Output Type: CMOS; ICC @ Nom Voltage(Max)(mA): 0.5; Input Type: TTL; Bits(#): 16; F @ Nom Voltage(Max)(Mhz): 70; Rating: Catalog; Technology Family: FCT; Voltage(Nom)(V): 5; Schmitt Trigger: No; Output Drive (IOL/IOH)(Max)(mA): 24/-24; tpd @ Nom Voltage(Max)(ns): 5.2; DatasheetVersion: SCCS054C; PackageReference: DGG0048A; Supplier 1: Digi-Key; Supplier Part Number 1: 296-14459-2-ND; Supplier 2: Digi-Key; Supplier Part Number 2: 296-14459-1-ND; Supplier 3: Digi-Key; Supplier Part Number 3: 296-14459-6-ND; Supplier 4: Newark; Supplier Part Number 4: 75C9328; Supplier 5: Mouser; Supplier Part Number 5: 595-74FT162373ATPACT; Operating Temperature Range(C): -40 to 85; Code_JEDEC: MO-153; ComponentLink1Description: Manufacturer URL; ComponentLink1URL: http://www.ti.com/; ComponentLink2Description: Datasheet; ComponentLink2URL: http://www.ti.com/lit/ds/symlink/cy74fct162373t.pdf; ComponentLink3Description: Package Specification; ComponentLink3URL: http://www.ti.com/lit/ml/mtss003d/mtss003d.pdf
footprint DGG0048A_N (TSSOP, 48-Leads, Body 12.6x6.2mm, Pitch 0.5mm, IPC Medium Density)
footprint DGG0048A_M (TSSOP, 48-Leads, Body 12.6x6.2mm, Pitch 0.5mm, IPC Low Density)
footprint DGG0048A_L (TSSOP, 48-Leads, Body 12.6x6.2mm, Pitch 0.5mm, IPC High Density)
part A pins: 1 1~{OE} (in) "Output Enable Inputs (Active LOW)", 2 1O1 (hiz) "Three-State Outputs", 3 1O2 (hiz) "Three-State Outputs", 5 1O3 (hiz) "Three-State Outputs", 6 1O4 (hiz) "Three-State Outputs", 8 1O5 (hiz) "Three-State Outputs", 9 1O6 (hiz) "Three-State Outputs", 11 1O7 (hiz) "Three-State Outputs", 12 1O8 (hiz) "Three-State Outputs", 37 1D8 (in) "Data Inputs", 38 1D7 (in) "Data Inputs", 40 1D6 (in) "Data Inputs", 41 1D5 (in) "Data Inputs", 43 1D4 (in) "Data Inputs", 44 1D3 (in) "Data Inputs", 46 1D2 (in) "Data Inputs", 47 1D1 (in) "Data Inputs", 48 1LE (in) "Latch Enable Inputs (Active HIGH)"
part B pins: 13 2O1 (hiz) "Three-State Outputs", 14 2O2 (hiz) "Three-State Outputs", 16 2O3 (hiz) "Three-State Outputs", 17 2O4 (hiz) "Three-State Outputs", 19 2O5 (hiz) "Three-State Outputs", 20 2O6 (hiz) "Three-State Outputs", 22 2O7 (hiz) "Three-State Outputs", 23 2O8 (hiz) "Three-State Outputs", 24 2~{OE} (in) "Output Enable Inputs (Active LOW)", 25 2LE (in) "Latch Enable Inputs (Active HIGH)", 26 2D8 (in) "Data Inputs", 27 2D7 (in) "Data Inputs", 29 2D6 (in) "Data Inputs", 30 2D5 (in) "Data Inputs", 32 2D4 (in) "Data Inputs", 33 2D3 (in) "Data Inputs", 35 2D2 (in) "Data Inputs", 36 2D1 (in) "Data Inputs"
part C pins: 4 GND (power), 7 VCC (power), 10 GND (power), 15 GND (power), 18 VCC (power), 21 GND (power), 28 GND (power), 31 VCC (power), 34 GND (power), 39 GND (power), 42 VCC (power), 45 GND (power)

## 74FCT162373ATPVCT
designator U?
16-Bit Transparent D-Type Latches with 3-State Outputs, DL0048A, LARGE T&R; Generic Part Number: CY74FCT162373T; Manufacturer: Texas Instruments; PartNumber: 74FCT162373ATPVCT; VCC(Min)(V): 4.5; VCC(Max)(V): 5.5; Output Type: CMOS; ICC @ Nom Voltage(Max)(mA): 0.5; Input Type: TTL; Bits(#): 16; F @ Nom Voltage(Max)(Mhz): 70; Rating: Catalog; Technology Family: FCT; Voltage(Nom)(V): 5; Schmitt Trigger: No; Output Drive (IOL/IOH)(Max)(mA): 24/-24; tpd @ Nom Voltage(Max)(ns): 5.2; DatasheetVersion: SCCS054C; PackageReference: DL0048A; Supplier 1: Digi-Key; Supplier Part Number 1: 296-28464-2-ND; Supplier 2: Digi-Key; Supplier Part Number 2: 296-28464-1-ND; Supplier 3: Digi-Key; Supplier Part Number 3: 296-28464-6-ND; Supplier 4: Mouser; Supplier Part Number 4: 595-FCT162373ATPVCT; Operating Temperature Range(C): -40 to 85; Code_JEDEC: MO-118; ComponentLink1Description: Manufacturer URL; ComponentLink1URL: http://www.ti.com/; ComponentLink2Description: Datasheet; ComponentLink2URL: http://www.ti.com/lit/ds/symlink/cy74fct162373t.pdf; ComponentLink3Description: Package Specification; ComponentLink3URL: http://www.ti.com/lit/ml/mpds490/mpds490.pdf
footprint DL0048A_N (SOP, 48-Leads, Body 7.6x16mm, Pitch 0.635mm, IPC Medium Density)
footprint DL0048A_M (SOP, 48-Leads, Body 7.6x16mm, Pitch 0.635mm, IPC Low Density)
footprint DL0048A_L (SOP, 48-Leads, Body 7.6x16mm, Pitch 0.635mm, IPC High Density)
part A pins: 1 1~{OE} (in) "Output Enable Inputs (Active LOW)", 2 1O1 (hiz) "Three-State Outputs", 3 1O2 (hiz) "Three-State Outputs", 5 1O3 (hiz) "Three-State Outputs", 6 1O4 (hiz) "Three-State Outputs", 8 1O5 (hiz) "Three-State Outputs", 9 1O6 (hiz) "Three-State Outputs", 11 1O7 (hiz) "Three-State Outputs", 12 1O8 (hiz) "Three-State Outputs", 37 1D8 (in) "Data Inputs", 38 1D7 (in) "Data Inputs", 40 1D6 (in) "Data Inputs", 41 1D5 (in) "Data Inputs", 43 1D4 (in) "Data Inputs", 44 1D3 (in) "Data Inputs", 46 1D2 (in) "Data Inputs", 47 1D1 (in) "Data Inputs", 48 1LE (in) "Latch Enable Inputs (Active HIGH)"
part B pins: 13 2O1 (hiz) "Three-State Outputs", 14 2O2 (hiz) "Three-State Outputs", 16 2O3 (hiz) "Three-State Outputs", 17 2O4 (hiz) "Three-State Outputs", 19 2O5 (hiz) "Three-State Outputs", 20 2O6 (hiz) "Three-State Outputs", 22 2O7 (hiz) "Three-State Outputs", 23 2O8 (hiz) "Three-State Outputs", 24 2~{OE} (in) "Output Enable Inputs (Active LOW)", 25 2LE (in) "Latch Enable Inputs (Active HIGH)", 26 2D8 (in) "Data Inputs", 27 2D7 (in) "Data Inputs", 29 2D6 (in) "Data Inputs", 30 2D5 (in) "Data Inputs", 32 2D4 (in) "Data Inputs", 33 2D3 (in) "Data Inputs", 35 2D2 (in) "Data Inputs", 36 2D1 (in) "Data Inputs"
part C pins: 4 GND (power), 7 VCC (power), 10 GND (power), 15 GND (power), 18 VCC (power), 21 GND (power), 28 GND (power), 31 VCC (power), 34 GND (power), 39 GND (power), 42 VCC (power), 45 GND (power)

## 74FCT162374ATPACT
designator U?
16-Bit Edge-Triggered D-Type Flip-Flops with 3-State Output, DGG0048A, LARGE T&R; Generic Part Number: CY74FCT162374T; Manufacturer: Texas Instruments; PartNumber: 74FCT162374ATPACT; VCC(Min)(V): 4.5; VCC(Max)(V): 5.5; Output Type: CMOS; ICC @ Nom Voltage(Max)(mA): 0.5; Input Type: TTL; Bits(#): 16; F @ Nom Voltage(Max)(Mhz): 70; Rating: Catalog; Technology Family: FCT; Voltage(Nom)(V): 5; Schmitt Trigger: No; Output Drive (IOL/IOH)(Max)(mA): 24/-24; tpd @ Nom Voltage(Max)(ns): 6.5; DatasheetVersion: SCCS055C; PackageReference: DGG0048A; Supplier 1: Digi-Key; Supplier Part Number 1: 296-23189-2-ND; Supplier 2: Digi-Key; Supplier Part Number 2: 296-23189-1-ND; Supplier 3: Digi-Key; Supplier Part Number 3: 296-23189-6-ND; Supplier 4: Newark; Supplier Part Number 4: 75C9332; Supplier 5: Mouser; Supplier Part Number 5: 595-74FCT162374ATPAC; Operating Temperature Range(C): -40 to 85; Code_JEDEC: MO-153; ComponentLink1Description: Manufacturer URL; ComponentLink1URL: http://www.ti.com/; ComponentLink2Description: Datasheet; ComponentLink2URL: http://www.ti.com/lit/ds/symlink/cy74fct162374t.pdf; ComponentLink3Description: Package Specification; ComponentLink3URL: http://www.ti.com/lit/ml/mtss003d/mtss003d.pdf
footprint DGG0048A_N (TSSOP, 48-Leads, Body 12.6x6.2mm, Pitch 0.5mm, IPC Medium Density)
footprint DGG0048A_M (TSSOP, 48-Leads, Body 12.6x6.2mm, Pitch 0.5mm, IPC Low Density)
footprint DGG0048A_L (TSSOP, 48-Leads, Body 12.6x6.2mm, Pitch 0.5mm, IPC High Density)
part A pins: 1 1OE (in) "Three-State Output Enable Inputs (Active LOW)", 2 1O1 (hiz) "Three-State Outputs", 3 1O2 (hiz) "Three-State Outputs", 5 1O3 (hiz) "Three-State Outputs", 6 1O4 (hiz) "Three-State Outputs", 8 1O5 (hiz) "Three-State Outputs", 9 1O6 (hiz) "Three-State Outputs", 11 1O7 (hiz) "Three-State Outputs", 12 1O8 (hiz) "Three-State Outputs", 37 1D8 (in) "Data Inputs", 38 1D7 (in) "Data Inputs", 40 1D6 (in) "Data Inputs", 41 1D5 (in) "Data Inputs", 43 1D4 (in) "Data Inputs", 44 1D3 (in) "Data Inputs", 46 1D2 (in) "Data Inputs", 47 1D1 (in) "Data Inputs", 48 1CLK (in) "Clock Inputs"
part B pins: 13 2O1 (hiz) "Three-State Outputs", 14 2O2 (hiz) "Three-State Outputs", 16 2O3 (hiz) "Three-State Outputs", 17 2O4 (hiz) "Three-State Outputs", 19 2O5 (hiz) "Three-State Outputs", 20 2O6 (hiz) "Three-State Outputs", 22 2O7 (hiz) "Three-State Outputs", 23 2O8 (hiz) "Three-State Outputs", 24 2OE (in) "Three-State Output Enable Inputs (Active LOW)", 25 2CLK (in) "Clock Inputs", 26 2D8 (in) "Data Inputs", 27 2D7 (in) "Data Inputs", 29 2D6 (in) "Data Inputs", 30 2D5 (in) "Data Inputs", 32 2D4 (in) "Data Inputs", 33 2D3 (in) "Data Inputs", 35 2D2 (in) "Data Inputs", 36 2D1 (in) "Data Inputs"
part C pins: 4 GND (power), 7 VCC (power), 10 GND (power), 15 GND (power), 18 VCC (power), 21 GND (power), 28 GND (power), 31 VCC (power), 34 GND (power), 39 GND (power), 42 VCC (power), 45 GND (power)

## 74FCT162374CTPACT
designator U?
16-Bit Edge-Triggered D-Type Flip-Flops with 3-State Output, DGG0048A, LARGE T&R; Generic Part Number: CY74FCT162374T; Manufacturer: Texas Instruments; PartNumber: 74FCT162374CTPACT; VCC(Min)(V): 4.5; VCC(Max)(V): 5.5; Output Type: CMOS; ICC @ Nom Voltage(Max)(mA): 0.5; Input Type: TTL; Bits(#): 16; F @ Nom Voltage(Max)(Mhz): 70; Rating: Catalog; Technology Family: FCT; Voltage(Nom)(V): 5; Schmitt Trigger: No; Output Drive (IOL/IOH)(Max)(mA): 24/-24; tpd @ Nom Voltage(Max)(ns): 5.2; DatasheetVersion: SCCS055C; PackageReference: DGG0048A; Supplier 1: Digi-Key; Supplier Part Number 1: 296-23190-2-ND; Supplier 2: Digi-Key; Supplier Part Number 2: 296-23190-1-ND; Supplier 3: Digi-Key; Supplier Part Number 3: 296-23190-6-ND; Supplier 4: Mouser; Supplier Part Number 4: 595-74FCT162374CTPAC; Operating Temperature Range(C): -40 to 85; Code_JEDEC: MO-153; ComponentLink1Description: Manufacturer URL; ComponentLink1URL: http://www.ti.com/; ComponentLink2Description: Datasheet; ComponentLink2URL: http://www.ti.com/lit/ds/symlink/cy74fct162374t.pdf; ComponentLink3Description: Package Specification; ComponentLink3URL: http://www.ti.com/lit/ml/mtss003d/mtss003d.pdf
footprint DGG0048A_N (TSSOP, 48-Leads, Body 12.6x6.2mm, Pitch 0.5mm, IPC Medium Density)
footprint DGG0048A_M (TSSOP, 48-Leads, Body 12.6x6.2mm, Pitch 0.5mm, IPC Low Density)
footprint DGG0048A_L (TSSOP, 48-Leads, Body 12.6x6.2mm, Pitch 0.5mm, IPC High Density)
part A pins: 1 1OE (in) "Three-State Output Enable Inputs (Active LOW)", 2 1O1 (hiz) "Three-State Outputs", 3 1O2 (hiz) "Three-State Outputs", 5 1O3 (hiz) "Three-State Outputs", 6 1O4 (hiz) "Three-State Outputs", 8 1O5 (hiz) "Three-State Outputs", 9 1O6 (hiz) "Three-State Outputs", 11 1O7 (hiz) "Three-State Outputs", 12 1O8 (hiz) "Three-State Outputs", 37 1D8 (in) "Data Inputs", 38 1D7 (in) "Data Inputs", 40 1D6 (in) "Data Inputs", 41 1D5 (in) "Data Inputs", 43 1D4 (in) "Data Inputs", 44 1D3 (in) "Data Inputs", 46 1D2 (in) "Data Inputs", 47 1D1 (in) "Data Inputs", 48 1CLK (in) "Clock Inputs"
part B pins: 13 2O1 (hiz) "Three-State Outputs", 14 2O2 (hiz) "Three-State Outputs", 16 2O3 (hiz) "Three-State Outputs", 17 2O4 (hiz) "Three-State Outputs", 19 2O5 (hiz) "Three-State Outputs", 20 2O6 (hiz) "Three-State Outputs", 22 2O7 (hiz) "Three-State Outputs", 23 2O8 (hiz) "Three-State Outputs", 24 2OE (in) "Three-State Output Enable Inputs (Active LOW)", 25 2CLK (in) "Clock Inputs", 26 2D8 (in) "Data Inputs", 27 2D7 (in) "Data Inputs", 29 2D6 (in) "Data Inputs", 30 2D5 (in) "Data Inputs", 32 2D4 (in) "Data Inputs", 33 2D3 (in) "Data Inputs", 35 2D2 (in) "Data Inputs", 36 2D1 (in) "Data Inputs"
part C pins: 4 GND (power), 7 VCC (power), 10 GND (power), 15 GND (power), 18 VCC (power), 21 GND (power), 28 GND (power), 31 VCC (power), 34 GND (power), 39 GND (power), 42 VCC (power), 45 GND (power)

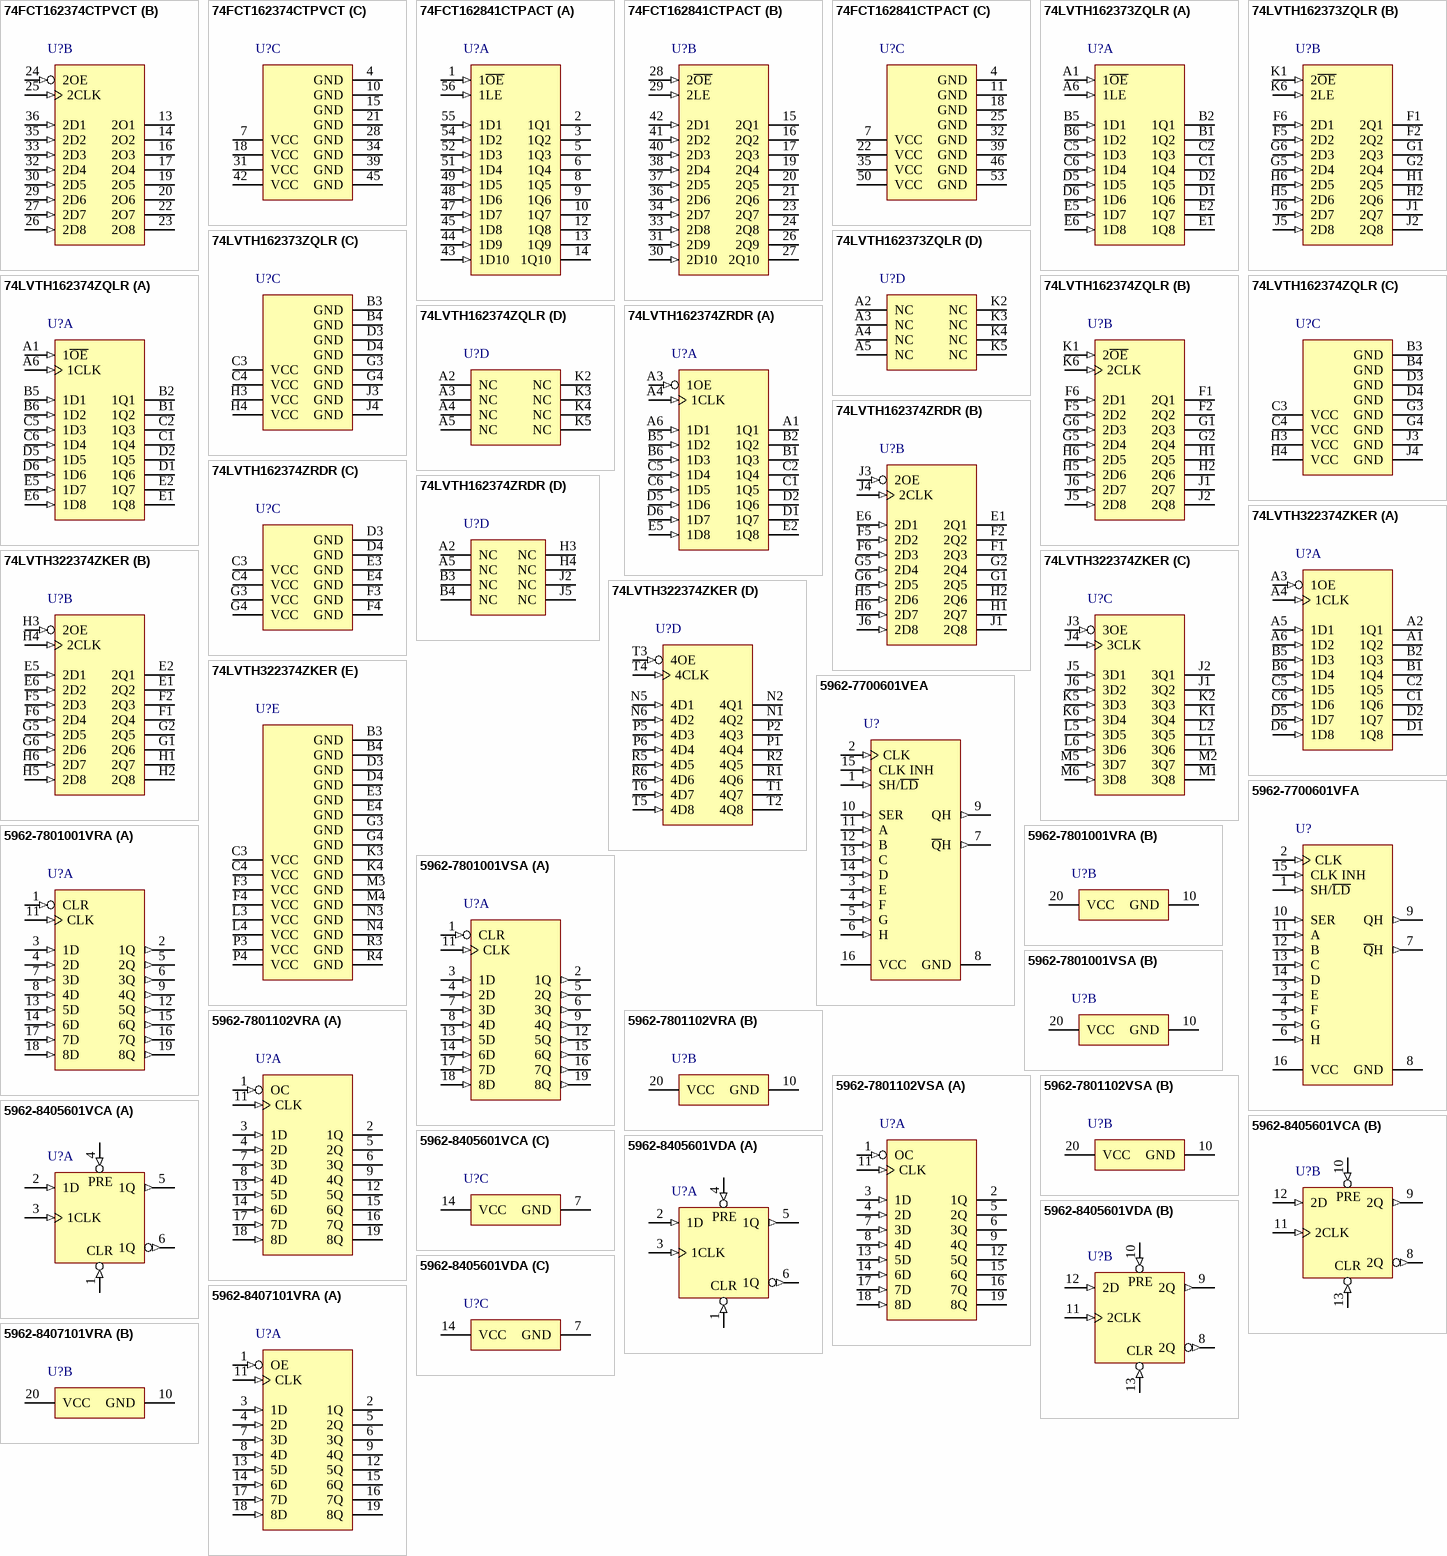
[diagram p3: symbols 74FCT162374CTPVCT to 5962-8407101VRA]

## 74FCT162374CTPVCT
designator U?
16-Bit Edge-Triggered D-Type Flip-Flops with 3-State Output, DL0048A, LARGE T&R; Generic Part Number: CY74FCT162374T; Manufacturer: Texas Instruments; PartNumber: 74FCT162374CTPVCT; VCC(Min)(V): 4.5; VCC(Max)(V): 5.5; Output Type: CMOS; ICC @ Nom Voltage(Max)(mA): 0.5; Input Type: TTL; Bits(#): 16; F @ Nom Voltage(Max)(Mhz): 70; Rating: Catalog; Technology Family: FCT; Voltage(Nom)(V): 5; Schmitt Trigger: No; Output Drive (IOL/IOH)(Max)(mA): 24/-24; tpd @ Nom Voltage(Max)(ns): 5.2; DatasheetVersion: SCCS055C; PackageReference: DL0048A; Supplier 1: Digi-Key; Supplier Part Number 1: 296-31468-2-ND; Supplier 2: Digi-Key; Supplier Part Number 2: 296-31468-1-ND; Supplier 3: Digi-Key; Supplier Part Number 3: 296-31468-6-ND; Supplier 4: Mouser; Supplier Part Number 4: 595-74FCT162374CTPVC; Operating Temperature Range(C): -40 to 85; Code_JEDEC: MO-118; ComponentLink1Description: Manufacturer URL; ComponentLink1URL: http://www.ti.com/; ComponentLink2Description: Datasheet; ComponentLink2URL: http://www.ti.com/lit/ds/symlink/cy74fct162374t.pdf; ComponentLink3Description: Package Specification; ComponentLink3URL: http://www.ti.com/lit/ml/mpds490/mpds490.pdf
footprint DL0048A_N (SOP, 48-Leads, Body 7.6x16mm, Pitch 0.635mm, IPC Medium Density)
footprint DL0048A_M (SOP, 48-Leads, Body 7.6x16mm, Pitch 0.635mm, IPC Low Density)
footprint DL0048A_L (SOP, 48-Leads, Body 7.6x16mm, Pitch 0.635mm, IPC High Density)
part A pins: 1 1OE (in) "Three-State Output Enable Inputs (Active LOW)", 2 1O1 (hiz) "Three-State Outputs", 3 1O2 (hiz) "Three-State Outputs", 5 1O3 (hiz) "Three-State Outputs", 6 1O4 (hiz) "Three-State Outputs", 8 1O5 (hiz) "Three-State Outputs", 9 1O6 (hiz) "Three-State Outputs", 11 1O7 (hiz) "Three-State Outputs", 12 1O8 (hiz) "Three-State Outputs", 37 1D8 (in) "Data Inputs", 38 1D7 (in) "Data Inputs", 40 1D6 (in) "Data Inputs", 41 1D5 (in) "Data Inputs", 43 1D4 (in) "Data Inputs", 44 1D3 (in) "Data Inputs", 46 1D2 (in) "Data Inputs", 47 1D1 (in) "Data Inputs", 48 1CLK (in) "Clock Inputs"
part B pins: 13 2O1 (hiz) "Three-State Outputs", 14 2O2 (hiz) "Three-State Outputs", 16 2O3 (hiz) "Three-State Outputs", 17 2O4 (hiz) "Three-State Outputs", 19 2O5 (hiz) "Three-State Outputs", 20 2O6 (hiz) "Three-State Outputs", 22 2O7 (hiz) "Three-State Outputs", 23 2O8 (hiz) "Three-State Outputs", 24 2OE (in) "Three-State Output Enable Inputs (Active LOW)", 25 2CLK (in) "Clock Inputs", 26 2D8 (in) "Data Inputs", 27 2D7 (in) "Data Inputs", 29 2D6 (in) "Data Inputs", 30 2D5 (in) "Data Inputs", 32 2D4 (in) "Data Inputs", 33 2D3 (in) "Data Inputs", 35 2D2 (in) "Data Inputs", 36 2D1 (in) "Data Inputs"
part C pins: 4 GND (power), 7 VCC (power), 10 GND (power), 15 GND (power), 18 VCC (power), 21 GND (power), 28 GND (power), 31 VCC (power), 34 GND (power), 39 GND (power), 42 VCC (power), 45 GND (power)

## 74FCT162841CTPACT
designator U?
20-Bit Bus Interface D-Type Latches with 3-State Outputs, DGG0056A, LARGE T&R; Generic Part Number: CY74FCT162841T; Manufacturer: Texas Instruments; PartNumber: 74FCT162841CTPACT; VCC(Min)(V): 4.5; VCC(Max)(V): 5.5; Output Type: CMOS; ICC @ Nom Voltage(Max)(mA): 0.5; Input Type: TTL; Bits(#): 20; F @ Nom Voltage(Max)(Mhz): 70; Rating: Catalog; Technology Family: FCT; Voltage(Nom)(V): 5; Schmitt Trigger: No; Output Drive (IOL/IOH)(Max)(mA): 24/-24; DatasheetVersion: SCCS067A; PackageReference: DGG0056A; Supplier 1: Digi-Key; Supplier Part Number 1: 74FCT162841CTPACT-ND; Supplier 2: Mouser; Supplier Part Number 2: 595-FCT162841CTPACT; Operating Temperature Range(C): -40 to 85; tpd @ Nom Voltage(Max)(ns): 5.5; Code_JEDEC: MO-153; ComponentLink1Description: Manufacturer URL; ComponentLink1URL: http://www.ti.com/; ComponentLink2Description: Datasheet; ComponentLink2URL: http://www.ti.com/lit/ds/symlink/cy74fct162841t.pdf; ComponentLink3Description: Package Specification; ComponentLink3URL: http://www.ti.com/lit/ml/mtss003d/mtss003d.pdf
footprint DGG0056A_N (TSSOP, 56-Leads, Body 14.1x6.2mm, Pitch 0.5mm, IPC Medium Density)
footprint DGG0056A_M (TSSOP, 56-Leads, Body 14.1x6.2mm, Pitch 0.5mm, IPC Low Density)
footprint DGG0056A_L (TSSOP, 56-Leads, Body 14.1x6.2mm, Pitch 0.5mm, IPC High Density)
part A pins: 1 1~{OE} (in) "Output Enable Input (Active LOW)", 2 1Q1 (hiz) "Three-State Outputs", 3 1Q2 (hiz) "Three-State Outputs", 5 1Q3 (hiz) "Three-State Outputs", 6 1Q4 (hiz) "Three-State Outputs", 8 1Q5 (hiz) "Three-State Outputs", 9 1Q6 (hiz) "Three-State Outputs", 10 1Q7 (hiz) "Three-State Outputs", 12 1Q8 (hiz) "Three-State Outputs", 13 1Q9 (hiz) "Three-State Outputs", 14 1Q10 (hiz) "Three-State Outputs", 43 1D10 (in) "Data Inputs", 44 1D9 (in) "Data Inputs", 45 1D8 (in) "Data Inputs", 47 1D7 (in) "Data Inputs", 48 1D6 (in) "Data Inputs", 49 1D5 (in) "Data Inputs", 51 1D4 (in) "Data Inputs", 52 1D3 (in) "Data Inputs", 54 1D2 (in) "Data Inputs", 55 1D1 (in) "Data Inputs", 56 1LE (in) "Latch Enable Input (Active HIGH)"
part B pins: 15 2Q1 (hiz) "Three-State Outputs", 16 2Q2 (hiz) "Three-State Outputs", 17 2Q3 (hiz) "Three-State Outputs", 19 2Q4 (hiz) "Three-State Outputs", 20 2Q5 (hiz) "Three-State Outputs", 21 2Q6 (hiz) "Three-State Outputs", 23 2Q7 (hiz) "Three-State Outputs", 24 2Q8 (hiz) "Three-State Outputs", 26 2Q9 (hiz) "Three-State Outputs", 27 2Q10 (hiz) "Three-State Outputs", 28 2~{OE} (in) "Output Enable Input (Active LOW)", 29 2LE (in) "Latch Enable Input (Active HIGH)", 30 2D10 (in) "Data Inputs", 31 2D9 (in) "Data Inputs", 33 2D8 (in) "Data Inputs", 34 2D7 (in) "Data Inputs", 36 2D6 (in) "Data Inputs", 37 2D5 (in) "Data Inputs", 38 2D4 (in) "Data Inputs", 40 2D3 (in) "Data Inputs", 41 2D2 (in) "Data Inputs", 42 2D1 (in) "Data Inputs"
part C pins: 4 GND (power), 7 VCC (power), 11 GND (power), 18 GND (power), 22 VCC (power), 25 GND (power), 32 GND (power), 35 VCC (power), 39 GND (power), 46 GND (power), 50 VCC (power), 53 GND (power)

## 74LVTH162373ZQLR
designator U?
3.3-V ABT 16-Bit Transparent D-Type Latches With 3-State Outputs, ZQL0056A, LARGE T&R; Generic Part Number: SN74LVTH162373; Manufacturer: Texas Instruments; PartNumber: 74LVTH162373ZQLR; VCC(Min)(V): 2.7; VCC(Max)(V): 3.6; Output Type: TTL; ICC @ Nom Voltage(Max)(mA): 5; Bits(#): 16; F @ Nom Voltage(Max)(Mhz): 160; Rating: Catalog; Technology Family: LVT; Voltage(Nom)(V): 3.3; Schmitt Trigger: No; Output Drive (IOL/IOH)(Max)(mA): 12/-12; Output Logic: Non-inverted; 3-State Output: Yes; tpd @ Nom Voltage(Max)(ns): 4.6; DatasheetVersion: SCBS261M; PackageReference: ZQL0056A; Supplier 1: Digi-Key; Supplier Part Number 1: 296-23493-2-ND; Supplier 2: Digi-Key; Supplier Part Number 2: 296-23493-1-ND; Supplier 3: Digi-Key; Supplier Part Number 3: 296-23493-6-ND; Supplier 4: Mouser; Supplier Part Number 4: 595-74LVTH162373ZQLR; Input Type: TTL; Operating Temperature Range(C): -40 to 85; Code_JEDEC: MO-285; ComponentLink1Description: Manufacturer URL; ComponentLink1URL: http://www.ti.com/; ComponentLink2Description: Datasheet; ComponentLink2URL: http://www.ti.com/lit/ds/symlink/sn74lvth162373.pdf; ComponentLink3Description: Package Specification; ComponentLink3URL: http://www.ti.com/lit/ml/mpbg302g/mpbg302g.pdf
footprint ZQL0056A (BGA, 56-Balls, Body 7x4.5mm, Pitch 0.65mm)
part A pins: A1 1~{OE} (in) "Output Enable 1", A6 1LE (in) "Latch Enable 1", B1 1Q2 (hiz) "1Q2 Output", B2 1Q1 (hiz) "1Q1 Output", B5 1D1 (in) "1D1 Input", B6 1D2 (in) "1D2 Input", C1 1Q4 (hiz) "1Q4 Output", C2 1Q3 (hiz) "1Q3 Output", C5 1D3 (in) "1D3 Input", C6 1D4 (in) "1D4 Input", D1 1Q6 (hiz) "1Q6 Output", D2 1Q5 (hiz) "1Q5 Output", D5 1D5 (in) "1D5 Input", D6 1D6 (in) "1D6 Input", E1 1Q8 (hiz) "1Q7 Output", E2 1Q7 (hiz) "1Q8 Output", E5 1D7 (in) "1D7 Input", E6 1D8 (in) "1D8 Input"
part B pins: F1 2Q1 (hiz) "2Q1 Output", F2 2Q2 (hiz) "2Q2 Output", F5 2D2 (in) "2D2 Input", F6 2D1 (in) "2D1 Input", G1 2Q3 (hiz) "2Q3 Output", G2 2Q4 (hiz) "2Q4 Output", G5 2D4 (in) "2D4 Input", G6 2D3 (in) "2D3 Input", H1 2Q5 (hiz) "2Q5 Output", H2 2Q6 (hiz) "2Q6 Output", H5 2D6 (in) "2D6 Input", H6 2D5 (in) "2D5 Input", J1 2Q7 (hiz) "2Q7 Output", J2 2Q8 (hiz) "2Q8 Output", J5 2D8 (in) "2D8 Input", J6 2D7 (in) "2D7 Input", K1 2~{OE} (in) "Output Enable 2", K6 2LE (in) "2LE Input"
part C pins: B3 GND (power) "Ground Pin", B4 GND (power) "Ground Pin", C3 VCC (power) "Power Pin", C4 VCC (power) "Power Pin", D3 GND (power) "Ground Pin", D4 GND (power) "Ground Pin", G3 GND (power) "Ground Pin", G4 GND (power) "Ground Pin", H3 VCC (power) "Power Pin", H4 VCC (power) "Power Pin", J3 GND (power) "Ground Pin", J4 GND (power) "Ground Pin"
part D pins: A2 NC, A3 NC, A4 NC, A5 NC, K2 NC, K3 NC, K4 NC, K5 NC